# Altium schematic symbol library INFINEON IRLR3114ZTRPBF.SchLib: 1 symbol
Pins are listed as number, name and electrical type; pins without a type are passive.

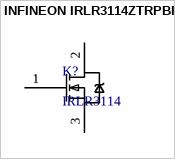
[diagram p0: symbol INFINEON IRLR3114ZTRPBF]

## INFINEON IRLR3114ZTRPBF
designator K?, comment IRLR3114
MOSFET de puissance, Canal N, 40 V, 42 A, 0.0039 ohm, TO-252AA, Montage en surface; Supplier 1: Mouser; Supplier 2: Farnell; Supplier 3: Digikey; Supplier Price 1: 1.03; Supplier Price 2: 1.06; Supplier Price 3: 1.46; Supplier Part Number 1: 942-IRLR3114ZTRPBF; Supplier Part Number 2: 2726018; Supplier Part Number 3: IRLR3114ZTRPBFCT-ND
footprint DPAK228P991X238-3M (D-PAK, 3-Pads, Body 6.21x6.73mm (max), IPC Low Density)
pins: 1 G, 2 D, 3 S